# Altium integrated library Connectors.IntLib: 13 symbols
Pins are listed as number, name and electrical type; pins without a type are passive.

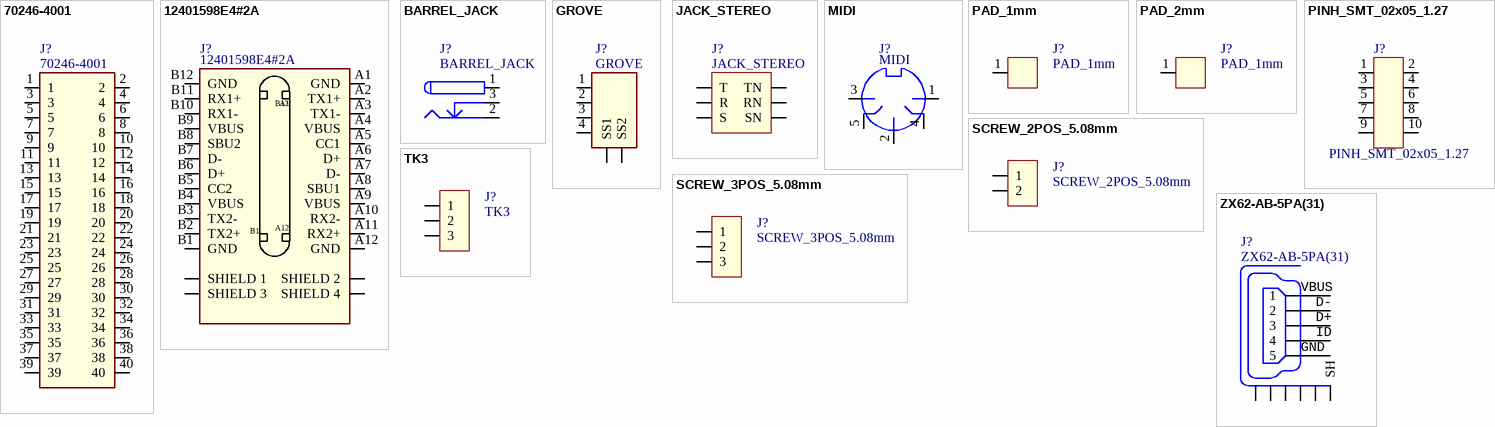
[diagram p0: symbols 70246-4001 to ZX62-AB-5PA(31)]

## 70246-4001
designator J?
40 Pins IDC connector
footprint 70246-4001
pins: 1, 2, 3, 4, 5, 6, 7, 8, 9, 10, 11, 12, 13, 14, 15, 16, 17, 18, 19, 20, 21, 22, 23, 24, 25, 26, 27, 28, 29, 30, 31, 32, 33, 34, 35, 36, 37, 38, 39, 40

## 12401598E4#2A
designator J?
footprint 12401598E4#2A
pins: A1 GND, A2 TX1+, A3 TX1-, A4 VBUS, A5 CC1, A6 D+, A7 D-, A8 SBU1, A9 VBUS, A10 RX2-, A11 RX2+, A12 GND, B1 GND, B2 TX2+, B3 TX2-, B4 VBUS, B5 CC2, B6 D+, B7 D-, B8 SBU2, B9 VBUS, B10 RX1-, B11 RX1+, B12 GND, SHIELD 1, SHIELD 2, SHIELD 3, SHIELD 4

## BARREL_JACK
designator J?
BARREL JACK 5x2.1
footprint BARREL_JACK
pins: 1 (power), 2 (power), 3 (power)

## GROVE
designator J?
footprint GROVE_SMT
footprint GROVE_THT
pins: 1, 2, 3, 4, SS1, SS2

## JACK_STEREO
designator J?
Stereo Jack with Switch
footprint NMJ6HCD2
pins: R, RN, S, SN, T, TN

## MIDI
designator J?
footprint MIDI
pins: 1, 2, 3, 4, 5

## PAD_1mm
designator J?
footprint PAD_1mm (Footprint not found)
pins: 1

## PAD_2mm
designator J?, comment PAD_1mm
footprint PAD_2mm (PAD_2MM)
pins: 1

## PINH_SMT_02x05_1.27
designator J?
FTSH-105-01-F-DV
footprint PINH_SMT_02x05_1.27
pins: 1, 2, 3, 4, 5, 6, 7, 8, 9, 10

## SCREW_2POS_5.08mm
designator J?
footprint SCREW_2POS_5.08mm
pins: 1, 2

## SCREW_3POS_5.08mm
designator J?
footprint SCREW_3POS_5.08mm
pins: 1, 2, 3

## TK3
designator J?
footprint TK3
pins: 1, 2, 3

## ZX62-AB-5PA(31)
designator J?
footprint ZX62-AB-5PA(31)
pins: 1, 2, 3, 4, 5, M1 SH, M2 SH, M3 SH, M4 SH, M5 SH, M6 SH
text: VBUS; D-; D+; ID; GND